# EAGLE library part 6250XX22323_62501422323 (library WR-BHD)
WR-BHD 2.00 mm Cable Side Characteristics Rated current: 1 A Working Voltage: 250 V UL approval: E323964 UL94-V0 Applications Industrial Production lines Details see: www.we-online.com/components/products/WTB_WR_BHD_BOX_HEADER_2_00MM_FEMALE Updated by Ella 2026-09-16 2026 (C) Würth Elektronik
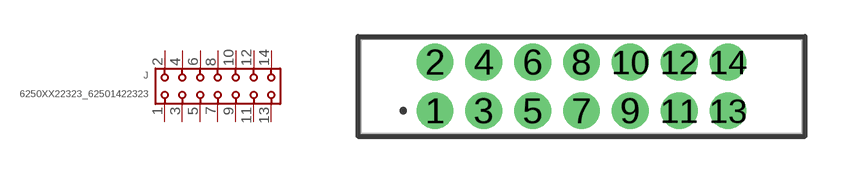
[diagram p36: symbol with the pads of 62501422323; footprint 62501422323]

Designator prefix J

## 6250XX22323_62501422323 (CATEGORY: Connectors; DATASHEET: https://www.we-online.com/redexpert/spec/62501422323?ae; GENDER: Female; LENGTH: 18.1 mm; MANUFACTURER: Würth Elektronik; MATES_WITH: 600625282804; MOUNT: THT; MPN: 62501422323; OPERATING_TEMPERATURE: -40 °C up to +125 °C; PACKAGING: Tray; PINS: 14; PITCH: 2mm; RATED_CURRENT: 1 A; SIZE: Transition; TYPE: Straight; VALUE: 62501422323)  [62501422323]
1  1  pas
2  2  pas
3  3  pas
4  4  pas
5  5  pas
6  6  pas
7  7  pas
8  8  pas
9  9  pas
10  10  pas
11  11  pas
12  12  pas
13  13  pas
14  14  pas

## Footprint 62501422323 (pad centres in mm)
WR-BHD Wire-to-Board Connectors, 2mm, Female, Transition, 14pins
drill 1: 1 -6,-1; 2 -6,1; 3 -4,-1; 4 -4,1; 5 -2,-1; 6 -2,1; 7 0,-1; 8 0,1; 9 2,-1; 10 2,1; 11 4,-1; 12 4,1; 13 6,-1; 14 6,1